# Altium schematic symbol library SCH - AUDIO - CUI SJ2-3574A-SMT-TR.SCHLIB: 1 symbol
Pins are listed as number, name and electrical type; pins without a type are passive.

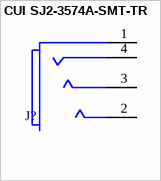
[diagram p0: symbol CUI SJ2-3574A-SMT-TR]

## CUI SJ2-3574A-SMT-TR
designator J?
pins: 1 sleeve, 2 tip, 3 ring 1, 4 ring 2